# EAGLE library part WE-VDRM-171032401 (library Wurth_Elektronik_SemiConductors_rev15b)
MagI³C-VDRM Variable Step Down Regulator Module The VDRM series of the MagI³C Power Modules Family comprise a fully integrated current mode DC/DC power supply with both the switching power stage, control circuitry and passive all in one package These devices also feature built-in compensation circuitry and a soft-start feature for a smooth, safe power up. The 7 PIN PFM is an industrial high power density package with a low profile and a small outline. The VDRM series offers high efficiency and delivers up to 3A of output current with accurate regulated output voltages. It operates from input voltage 6V to 42V. They are available in an innovative package that enhances thermal performance and allows for hand or machine soldering. The VDRM regulators also have on-board protection circuitry to guard against thermal and electrical damage. Thermal shut-down, over-current, overvoltage and under-voltage protections safeguard the regulator and include a short-circuit protection. Features: Peak efficiency up to 97% Current capability up to 3A Wide input voltage range: 6V-42V Wide output voltage range: 5V-24V Integrated inductor solution for quick time to market and ease of use Single exposed pad for best-in-class thermal performance Low output voltage ripple Under voltage lockout Protection (UVLO) Programmable soft-start and frequency Thermal shut down, inrush current and output short current protection Temperature range: -40 to 125°C RoHS & REACh compliant Application: Point of Load DC-DC applications Servers, Data and Telecom System power supplies DSPs, FPGAs, MCUs and MPUs I/O interface <http://katalog.we-online.de/media/images/pm/MagIC_2VDRM_pf2.jpg> Details see: http://katalog.we-online.de/en/pm/MagIC-VDRM/171032401
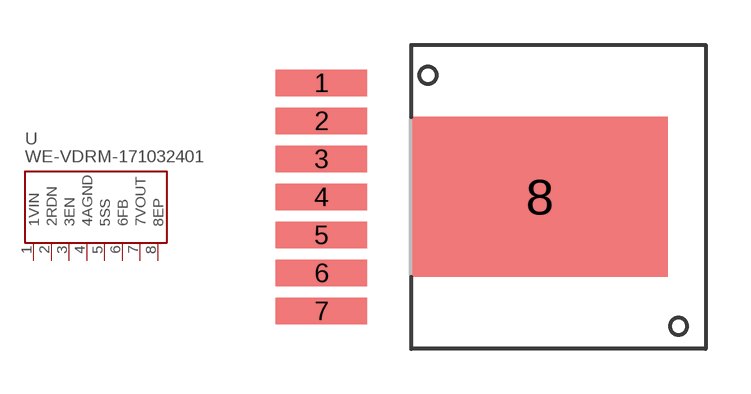
[diagram p5: symbol with the pads of 7PIN-PFM; footprint 7PIN-PFM]

Designator prefix U

## WE-VDRM-171032401 (COMPANY-URL: http://www.we-online.de; CREATED-DATE: JAN 2014; DATASHEET-URL: http://katalog.we-online.de/pm/datasheet/171032401.pdf; MANUFACTURER: Würth Elektronik eiSos GmbH)  [7PIN-PFM]
1  1VIN  in
2  2RDN  in
3  3EN  in
4  4AGND  pwr
5  5SS
6  6FB  out
7  7VOUT  out
8  8EP  pwr

## Footprint 7PIN-PFM (pad centres in mm)
smd 3.06 x 0.89: 1 0,3.81; 2 0,2.54; 3 0,1.27; 4 0,0; 5 0,-1.27; 6 0,-2.54; 7 0,-3.81
smd 8.54 x 5.35: 8 7.305,0